# Altium footprint library MAX500BCPE.PcbLib: 1 footprints
Each footprint in its own frame and in the unit in brackets; x right, y up, seen from the top. Pads: shape width x height; smd on the part's side, far side on the other; paste and mask are expansions set on the pad; w line width, h text height; cw(c..) or ccw(c..) is an arc to the next point about the centre after c.
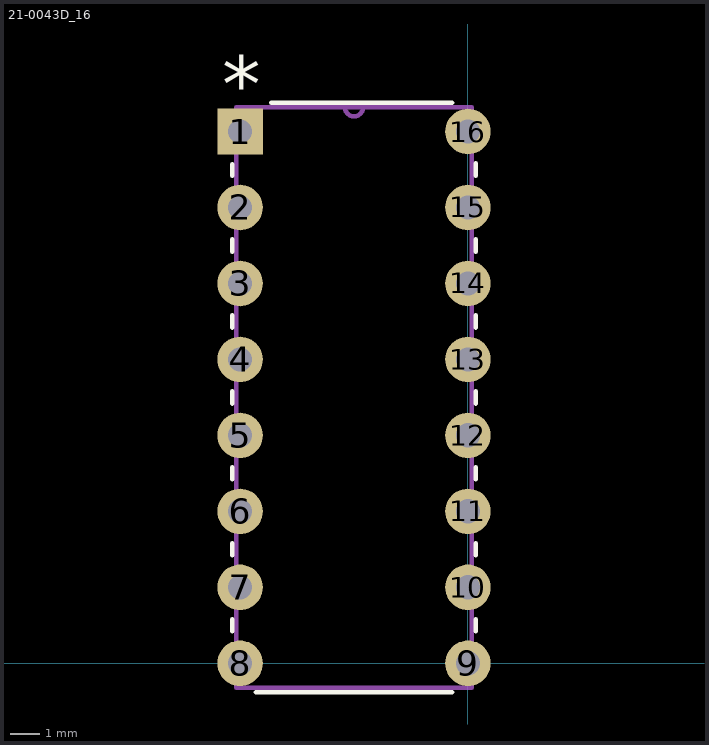
[diagram p0: the footprint, top view; thin cyan lines are the x and y axes]

## 21-0043D_16 [mil]
pads (16):
  rect 60x60 hole 32: 1(-300,700)
  round 60 hole 32: 2(-300,600) 3(-300,500) 4(-300,400) 5(-300,300) 6(-300,200) 7(-300,100) 8(-300,0) 9(0,0) 10(0,100) 11(0,200) 12(0,300) 13(0,400) 14(0,500) 15(0,600) 16(0,700)
Top Overlay:
  lines w6: -310,42 -310,58 ; -310,142 -310,158 ; -310,242 -310,258 ; -310,342 -310,358 ; -310,442 -310,458 ; -310,542 -310,558 ; -310,642 -310,657 ; -279,-38 -21,-38 ; -259,738 -21,738 ; 10,42 10,58 ; 10,142 10,158 ; 10,242 10,258 ; 10,342 10,358 ; 10,442 10,458 ; 10,542 10,558 ; 10,642 10,658
  text "*" at -323.29,725.83 h73.82
Mechanical 1:
  lines w6: -162,732 ccw(c-150,732) -138,732 ; -162,732 -305,732 -305,-32 5,-32 5,732 -138,732 ; -162,732 -138,732 ; -316,-16 -305,-16 -305,16 -316,16 -316,-16 ; -316,84 -305,84 -305,116 -316,116 -316,84 ; -316,184 -305,184 -305,216 -316,216 -316,184 ; -316,284 -305,284 -305,316 -316,316 -316,284 ; -316,384 -305,384 -305,416 -316,416 -316,384 ; -316,484 -305,484 -305,516 -316,516 -316,484 ; -316,584 -305,584 -305,616 -316,616 -316,584 ; -316,684 -305,684 -305,716 -316,716 -316,684 ; 5,-16 16,-16 16,16 5,16 5,-16 ; 5,84 16,84 16,116 5,116 5,84 ; 5,184 16,184 16,216 5,216 5,184 ; 5,284 16,284 16,316 5,316 5,284 ; 5,384 16,384 16,416 5,416 5,384 ; 5,484 16,484 16,516 5,516 5,484 ; 5,584 16,584 16,616 5,616 5,584 ; 5,684 16,684 16,716 5,716 5,684
  text "*" at -318.31,665.81 h73.82